# EAGLE library part AT32UC3A (library parts2011)
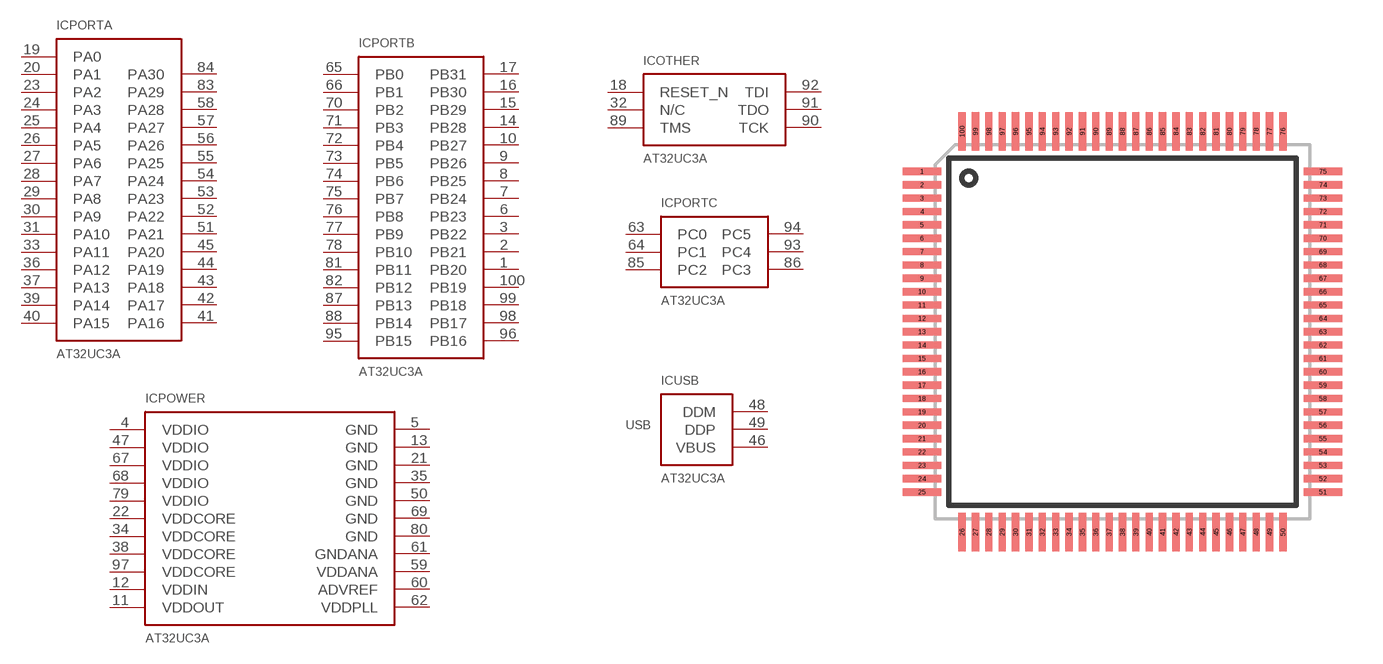
[diagram p3: symbol with the pads of TQFP-100; footprint TQFP-100]

Designator prefix IC; gates OTHER=AT32UC3A151-OTHER PORTA=AT32UC3A151-PA PORTB=AT32UC3A151-PB PORTC=AT32UC3A151-PC POWER=AT32UC3A151-PWR USB=AT32UC3A151-USB

## AT32UC3A-TQFP-100  [TQFP-100]
1  PORTB:PB20
2  PORTB:PB21
3  PORTB:PB22
4  POWER:VDDIO
5  POWER:GND  pwr
6  PORTB:PB23
7  PORTB:PB24
8  PORTB:PB25
9  PORTB:PB26
10  PORTB:PB27
11  POWER:VDDOUT  out
12  POWER:VDDIN  in
13  POWER:GND  pwr
14  PORTB:PB28
15  PORTB:PB29
16  PORTB:PB30
17  PORTB:PB31
18  OTHER:RESET_N
19  PORTA:PA0
20  PORTA:PA1
21  POWER:GND  pwr
22  POWER:VDDCORE
23  PORTA:PA2
24  PORTA:PA3
25  PORTA:PA4
26  PORTA:PA5
27  PORTA:PA6
28  PORTA:PA7
29  PORTA:PA8
30  PORTA:PA9
31  PORTA:PA10
32  OTHER:N/C  nc
33  PORTA:PA11
34  POWER:VDDCORE
35  POWER:GND  pwr
36  PORTA:PA12
37  PORTA:PA13
38  POWER:VDDCORE
39  PORTA:PA14
40  PORTA:PA15
41  PORTA:PA16
42  PORTA:PA17
43  PORTA:PA18
44  PORTA:PA19
45  PORTA:PA20
46  USB:VBUS
47  POWER:VDDIO
48  USB:DDM
49  USB:DDP
50  POWER:GND  pwr
51  PORTA:PA21
52  PORTA:PA22
53  PORTA:PA23
54  PORTA:PA24
55  PORTA:PA25
56  PORTA:PA26
57  PORTA:PA27
58  PORTA:PA28
59  POWER:VDDANA
60  POWER:ADVREF
61  POWER:GNDANA  pwr
62  POWER:VDDPLL
63  PORTC:PC0
64  PORTC:PC1
65  PORTB:PB0
66  PORTB:PB1
67  POWER:VDDIO
68  POWER:VDDIO
69  POWER:GND  pwr
70  PORTB:PB2
71  PORTB:PB3
72  PORTB:PB4
73  PORTB:PB5
74  PORTB:PB6
75  PORTB:PB7
76  PORTB:PB8
77  PORTB:PB9
78  PORTB:PB10
79  POWER:VDDIO
80  POWER:GND  pwr
81  PORTB:PB11
82  PORTB:PB12
83  PORTA:PA29
84  PORTA:PA30
85  PORTC:PC2
86  PORTC:PC3
87  PORTB:PB13
88  PORTB:PB14
89  OTHER:TMS
90  OTHER:TCK
91  OTHER:TDO
92  OTHER:TDI
93  PORTC:PC4
94  PORTC:PC5
95  PORTB:PB15
96  PORTB:PB16
97  POWER:VDDCORE
98  PORTB:PB17
99  PORTB:PB18
100  PORTB:PB19

## Footprint TQFP-100 (pad centres in mm)
smd 1.45 x 0.27: 1 -7.5,6; 2 -7.5,5.5; 3 -7.5,5; 4 -7.5,4.5; 5 -7.5,4; 6 -7.5,3.5; 7 -7.5,3; 8 -7.5,2.5; 9 -7.5,2; 10 -7.5,1.5; 11 -7.5,1; 12 -7.5,0.5; 13 -7.5,0; 14 -7.5,-0.5; 15 -7.5,-1; 16 -7.5,-1.5; 17 -7.5,-2; 18 -7.5,-2.5; 19 -7.5,-3; 20 -7.5,-3.5; 21 -7.5,-4; 22 -7.5,-4.5; 23 -7.5,-5; 24 -7.5,-5.5; 25 -7.5,-6; 51 7.5,-6; 52 7.5,-5.5; 53 7.5,-5; 54 7.5,-4.5; 55 7.5,-4; 56 7.5,-3.5; 57 7.5,-3; 58 7.5,-2.5; 59 7.5,-2; 60 7.5,-1.5; 61 7.5,-1; 62 7.5,-0.5; 63 7.5,0; 64 7.5,0.5; 65 7.5,1; 66 7.5,1.5; 67 7.5,2; 68 7.5,2.5; 69 7.5,3; 70 7.5,3.5; 71 7.5,4; 72 7.5,4.5; 73 7.5,5; 74 7.5,5.5; 75 7.5,6
smd 0.27 x 1.45: 26 -6,-7.5; 27 -5.5,-7.5; 28 -5,-7.5; 29 -4.5,-7.5; 30 -4,-7.5; 31 -3.5,-7.5; 32 -3,-7.5; 33 -2.5,-7.5; 34 -2,-7.5; 35 -1.5,-7.5; 36 -1,-7.5; 37 -0.5,-7.5; 38 0,-7.5; 39 0.5,-7.5; 40 1,-7.5; 41 1.5,-7.5; 42 2,-7.5; 43 2.5,-7.5; 44 3,-7.5; 45 3.5,-7.5; 46 4,-7.5; 47 4.5,-7.5; 48 5,-7.5; 49 5.5,-7.5; 50 6,-7.5; 76 6,7.5; 77 5.5,7.5; 78 5,7.5; 79 4.5,7.5; 80 4,7.5; 81 3.5,7.5; 82 3,7.5; 83 2.5,7.5; 84 2,7.5; 85 1.5,7.5; 86 1,7.5; 87 0.5,7.5; 88 0,7.5; 89 -0.5,7.5; 90 -1,7.5; 91 -1.5,7.5; 92 -2,7.5; 93 -2.5,7.5; 94 -3,7.5; 95 -3.5,7.5; 96 -4,7.5; 97 -4.5,7.5; 98 -5,7.5; 99 -5.5,7.5; 100 -6,7.5